# EAGLE library part NUCLEO32 (library Szymon.Sochaj_schemat2)
Nucleo-32
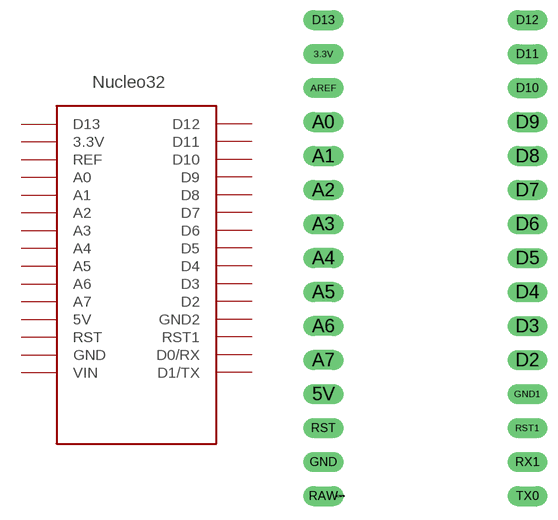
[diagram p1: symbol with the pads of NUCLEO32; footprint NUCLEO32]

Designator prefix -

## NUCLEO32  [NUCLEO32]
3.3V  3.3V
5V  5V
A0  A0
A1  A1
A2  A2
A3  A3
A4  A4
A5  A5
A6  A6
A7  A7
AREF  REF
D2  D2
D3  D3
D4  D4
D5  D5
D6  D6
D7  D7
D8  D8
D9  D9
D10  D10
D11  D11
D12  D12
D13  D13
GND  GND
GND1  GND2
ICSP1  ICSP1
ICSP2  ICSP2
ICSP3  ICSP3
ICSP4  ICSP4
ICSP5  ICSP5
ICSP6  ICSP6
RAW  VIN
RST  RST
RST1  RST1
RX1  D0/RX
TX0  D1/TX

## Footprint NUCLEO32 (pad centres in mm)
drill 1 long: 3.3V -10.16,24.13; 5V -10.16,-1.27; A0 -10.16,19.05; A1 -10.16,16.51; A2 -10.16,13.97; A3 -10.16,11.43; A4 -10.16,8.89; A5 -10.16,6.35; A6 -10.16,3.81; A7 -10.16,1.27; AREF -10.16,21.59; D2 5.08,1.27; D3 5.08,3.81; D4 5.08,6.35; D5 5.08,8.89; D6 5.08,11.43; D7 5.08,13.97; D8 5.08,16.51; D9 5.08,19.05; D10 5.08,21.59; D11 5.08,24.13; D12 5.08,26.67; D13 -10.16,26.67; GND -10.16,-6.35; GND1 5.08,-1.27; RAW -10.16,-8.89; RST -10.16,-3.81; RST1 5.08,-3.81; RX1 5.08,-6.35; TX0 5.08,-8.89
drill 0 pad 0: ICSP1 -8.89,-8.89; ICSP2 -8.89,-8.89; ICSP3 -8.89,-8.89; ICSP4 -8.89,-8.89; ICSP5 -8.89,-8.89; ICSP6 -8.89,-8.89